# Altium schematic symbol library resistors.SchLib: 26 symbols
Pins are listed as number, name and electrical type; pins without a type are passive.

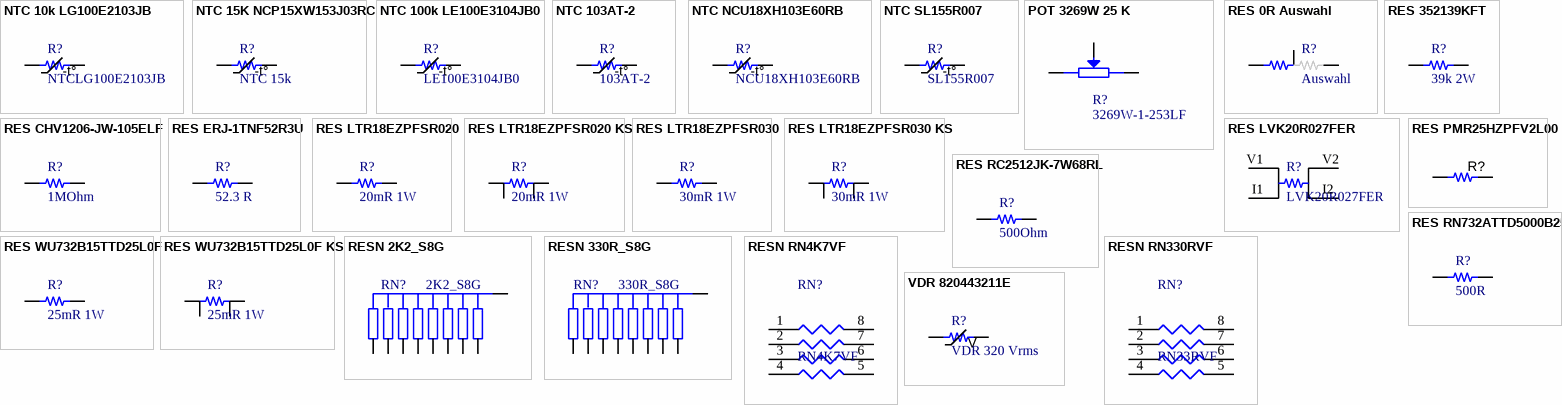
[diagram p0: symbols NTC 10k LG100E2103JB to VDR 820443211E]

## NTC 10k LG100E2103JB
designator R?, comment NTCLG100E2103JB
THERMISTOR NTC 10K 5% AXIAL; Manufacturer: Vishay / BC components; Manufacturer Part Number: NTCLG100E2103JB; Created by: Nils Minor; Value: 10k
footprint AXIAL0.5
pins: 1, 2
text: -t°

## NTC 15K NCP15XW153J03RC
designator R?, comment NTC 15k
NTC-Thermistoren 15K OHM 5%; Manufacturer: Murata; Manufacturer Part Number: NCP15XW153J03RC; Created by: Nils Minor; Value: 15k
footprint RES 0402/1005 (Chip Resistor, 2-Leads, Body 1.0x0.5mm, IPC Medium Density)
pins: 1, 2
text: -t°

## NTC 100k LE100E3104JB0
designator R?, comment LE100E3104JB0
THERMISTOR NTC 100K OHM 5% BEAD; Manufacturer: Vishay BCcomponents; Manufacturer Part Number: NTCLE100E3104JB0; Created by: Nils Minor; Value: 100k
footprint NTCLE100E3104JB0
pins: 1, 2
text: -t°

## NTC 103AT-2
designator R?, comment 103AT-2
Thermistors - NTC 10kohm 1%; Manufacturer: Semitec; Value: 10k; Manufacturer Part Number: 103AT-2; Created by: Nils Minor
footprint NTCLE100E3104JB0
pins: 1, 2
text: -t°

## NTC NCU18XH103E60RB
designator R?, comment NCU18XH103E60RB
Thermistor SMD 10k; Manufacturer: Murata; Manufacturer Part Number: NCU18XH103E60RB; Created by: Nils Minor; Value: 10k
footprint FER 0603/1608 (Chip Ferrite, 2-Leads, Body 1.60x0.80mm, IPC Medium Density)
pins: 1, 2
text: -t°

## NTC SL155R007
designator R?, comment SL155R007
ICL 5 OHM 20% 7A 15MM; Manufacturer: Ametherm; Value: 5R 7A; Manufacturer Part Number: SL155R007; Created by: Nils Minor
footprint SL 15
pins: 1, 2
text: -t°

## POT 3269W 25 K
designator R?, comment 3269W-1-253LF
Trimmerwiderstände – SMD 1/4" 25Kohms 10% Vertical Adjust; Manufacturer: Bourns; Value: 25k; Created by: Nils Minor; Manufacturer Part Number: 3269W-1-253LF
footprint RES POT BOURNS 3269
pins: 1, 2, 3

## RES 0R Auswahl
designator R?, comment Auswahl
0R 0603 Widerstandsauswahl; Manufacturer: Samsung; Manufacturer Part Number: RC1005J000CS; Created by: Nils Minor; Value: 0R
footprint R-Auswahl-0603
pins: 1, 2, 3

## RES 352139KFT
designator R?, comment 39k 2W
2W SMD 3521 39k resistor; Manufacturer: TE Connectivity; Manufacturer Part Number: 352139KFT; Created by: Nils Minor; Value: 39k
footprint RES 3521 (Chip Resistor, 2-Leads, Body 6,35*3,2 IPC Medium Density)
pins: 1, 2

## RES CHV1206-JW-105ELF
designator R?, comment 1MOhm
BOURNS CHV1206-JW-105ELF  SMD Chip Resistor, Thick Film, 1 Mohm, 1.6 kV, 1206 [3216 Metric], 250 mW,  5%, CHV Series; Created by: Nils Minor; Manufacturer: Bourns; Value: 1MOhm
footprint RES 1206/3216 (Chip Resistor, 2-Leads, Body 3.13x1.55mm, IPC Medium Density)
pins: 1, 2

## RES ERJ-1TNF52R3U
designator R?, comment 52.3 R
1W 52.3R Widerstand 1%; Manufacturer: Panasonic; Manufacturer Part Number: ERJ-1TNF52R3U; Created by: Nils Minor
footprint STACKPOLE CSRN2512 (Chip Resistor, 2-Leads, Body 6.40x3.20mm, IPC Medium Density)
pins: 1, 2

## RES LTR18EZPFSR020
designator R?, comment 20mR 1W
1W SMD Widerstand 20mOhms 1%; Manufacturer: Rohm; Manufacturer Part Number: LTR18EZPFSR020; Created by: Nils Minor; Value: 20 mR
footprint RES 0612/1632 LTR18 (Resistor, 2-Leads, Body 0.58mmx1.60)
pins: 1, 2

## RES LTR18EZPFSR020 KS
designator R?, comment 20mR 1W
1W SMD Widerstand 20mOhms 1% + Kelvin Sense; Manufacturer: Rohm; Manufacturer Part Number: LTR18EZPFSR020; Created by: Nils Minor; Value: 20 mR
footprint RES 0612/1632 LTR18 - Kelvin Sensing (Resistor, 2-Leads, Body 0.58mmx1.60)
pins: 1, 2, I1, I2

## RES LTR18EZPFSR030
designator R?, comment 30mR 1W
1W SMD Widerstand 30mOhms 1%; Manufacturer: Rohm; Manufacturer Part Number: LTR18EZPFSR030; Created by: Nils Minor; Value: 30 mR
footprint RES 0612/1632 LTR18 (Resistor, 2-Leads, Body 0.58mmx1.60)
pins: 1, 2

## RES LTR18EZPFSR030 KS
designator R?, comment 30mR 1W
1W SMD Widerstand 30mOhms 1% + Kelvin Sense; Manufacturer: Rohm; Manufacturer Part Number: LTR18EZPFSR030; Created by: Nils Minor; Value: 30 mR
footprint RES 0612/1632 LTR18 - Kelvin Sensing (Resistor, 2-Leads, Body 0.58mmx1.60)
pins: 1, 2, I1, I2

## RES LVK20R027FER
designator R?, comment LVK20R027FER
Current Sense Resistors - SMD; Manufacturer: Ohmite; Value: 27mR; Manufacturer Part Number: LVK20R027FER; Created by: Nils Minor
footprint LVK2010
pins: I1, I2, V1, V2

## RES PMR25HZPFV2L00
designator R?, comment 0.002 R 1W  (value not drawn)
RES, 0.002, 1%, 1 W, 1210; Manufacturer: Rohm; Manufacturer Part Number: PMR25HZPFV2L00; Value: 0.002; Created by: Nils Minor
footprint RES 1210/3225 (Chip Resistor, 2-Leads, Body 3.1x2.6mm, IPC Medium Density)
pins: 1, 2

## RES RC2512JK-7W68RL
designator R?, comment 500Ohm
Dünnfilmwiderstände - SMD 500Ohm,0805,0.1%,25p pm,100mW,100V; Manufacturer: Yageo; Manufacturer Part Number: RC2512JK-7W68RL; Value: 68R; Created by: Nils Minor
footprint STACKPOLE CSRN2512 (Chip Resistor, 2-Leads, Body 6.40x3.20mm, IPC Medium Density)
pins: 1, 2

## RES RN732ATTD5000B25
designator R?, comment 500R
Thin Film Resistors - SMD 1/10W 500ohm 0.1% 25ppm; Manufacturer: KOA Speer Electronics; Manufacturer Part Number: RN732ATTD5000B25; Created by: Nils Minor; Value: 500R
footprint RES 0805/2012 (Chip Resistor, 2-Leads, Body 2.00x1.25mm, IPC Medium Density)
pins: 1, 2

## RES WU732B15TTD25L0F
designator R?, comment 25mR 1W
1.5W SMD Widerstand 25mOhms 1%; Manufacturer: KOA Speer; Manufacturer Part Number: WU732B15TTD25L0F; Created by: Nils Minor; Value: 25 mR
footprint RES 0612/1632 LTR18 (Resistor, 2-Leads, Body 0.58mmx1.60)
pins: 1, 2

## RES WU732B15TTD25L0F KS
designator R?, comment 25mR 1W
1.5W SMD Widerstand 25mOhms 1% + Kelvin Sense; Manufacturer: KOA Speer; Manufacturer Part Number: WU732B15TTD25L0F; Created by: Nils Minor; Value: 25 mR
footprint RES 0612/1632 LTR18 - Kelvin Sensing (Resistor, 2-Leads, Body 0.58mmx1.60)
pins: 1, 2, I1, I2

## RESN 2K2_S8G
designator RN?, comment 2K2_S8G
Wid.-Netzwerk, 2K2, 8x, gemeins., A01; Manufacturer: Welwyn-TT; Manufacturer Part Number: L091S222LF; Created by: Nils Minor
footprint SIP9
pins: 1 COM, 2, 3, 4, 5, 6, 7, 8, 9

## RESN 330R_S8G
designator RN?, comment 330R_S8G
Wid.-Netzwerk, 330R, 8x, gemeins., A01; Manufacturer: Welwyn-TT; Manufacturer Part Number: L091S331LF; Created by: Nils Minor; Value: 330R
footprint SIP9
pins: 1 COM, 2, 3, 4, 5, 6, 7, 8, 9

## RESN RN4K7VF
designator RN?, comment RN4K7VF
Wid.-Netzwerk  4x 4K7  (SMD); Manufacturer: abgekündigt; Created by: Nils Minor; Manufacturer Part Number: abgekündigt; Value: 4k7
footprint NC06-4
pins: 1, 2, 3, 4, 5, 6, 7, 8

## RESN RN330RVF
designator RN?, comment RN33RVF
Wid.-Netzwerk  4x 33R  (SMD); Manufacturer: abgekündigt; Created by: Nils Minor; Manufacturer Part Number: abgekündigt; Value: 33R
footprint NC06-4
pins: 1, 2, 3, 4, 5, 6, 7, 8

## VDR 820443211E
designator R?, comment VDR 320 Vrms
Varistoren WE-VD High Surge 14mm 320Vrms Type 5; Manufacturer: Wurth Electronics; Manufacturer Part Number: 820443211E; Created by: Nils Minor; Value: 320Vrms
footprint 820443211E
pins: 1, 2
text: V